# Altium footprint library EFR32BG1B232F256GM48-C0-QFN48.PcbLib: 2 footprints
Each footprint in its own frame and in the unit in brackets; x right, y up, seen from the top. Pads: shape width x height; smd on the part's side, far side on the other; paste and mask are expansions set on the pad; w line width, h text height; cw(c..) or ccw(c..) is an arc to the next point about the centre after c.
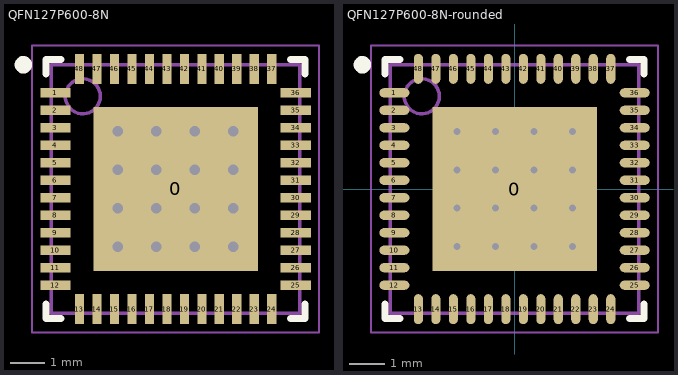
[diagram p0: the footprints below, top view; thin cyan lines are the x and y axes]

## QFN127P600-8N [mm] "EFR32BG1B232F256GM48-C0-QFN48"
height 0.9
pads (49):
  rect 4.7x4.7 smd: 0(-13.74,13.74)
  rect 0.86x0.26 smd: 1(-17.175,16.49) 2(-17.175,15.99) 3(-17.175,15.49) 4(-17.175,14.99) 5(-17.175,14.49) 6(-17.175,13.99) 7(-17.175,13.49) 8(-17.175,12.99) 9(-17.175,12.49) 10(-17.175,11.99) 11(-17.175,11.49) 12(-17.175,10.99) 25(-10.305,10.99) 26(-10.305,11.49) 27(-10.305,11.99) 28(-10.305,12.49) 29(-10.305,12.99) 30(-10.305,13.49) 31(-10.305,13.99) 32(-10.305,14.49) 33(-10.305,14.99) 34(-10.305,15.49) 35(-10.305,15.99) 36(-10.305,16.49)
  rect 0.26x0.86 smd: 13(-16.49,10.305) 14(-15.99,10.305) 15(-15.49,10.305) 16(-14.99,10.305) 17(-14.49,10.305) 18(-13.99,10.305) 19(-13.49,10.305) 20(-12.99,10.305) 21(-12.49,10.305) 22(-11.99,10.305) 23(-11.49,10.305) 24(-10.99,10.305) 37(-10.99,17.175) 38(-11.49,17.175) 39(-11.99,17.175) 40(-12.49,17.175) 41(-12.99,17.175) 42(-13.49,17.175) 43(-13.99,17.175) 44(-14.49,17.175) 45(-14.99,17.175) 46(-15.49,17.175) 47(-15.99,17.175) 48(-16.49,17.175)
via -15.39,15.39 diameter 0.61 hole 0.305
via -14.29,15.39 diameter 0.61 hole 0.305
via -13.19,15.39 diameter 0.61 hole 0.305
via -12.09,15.39 diameter 0.61 hole 0.305
via -15.39,14.29 diameter 0.61 hole 0.305
via -14.29,14.29 diameter 0.61 hole 0.305
via -13.19,14.29 diameter 0.61 hole 0.305
via -12.09,14.29 diameter 0.61 hole 0.305
via -15.39,13.19 diameter 0.61 hole 0.305
via -14.29,13.19 diameter 0.61 hole 0.305
via -13.19,13.19 diameter 0.61 hole 0.305
via -12.09,13.19 diameter 0.61 hole 0.305
via -15.39,12.09 diameter 0.61 hole 0.305
via -14.29,12.09 diameter 0.61 hole 0.305
via -13.19,12.09 diameter 0.61 hole 0.305
via -12.09,12.09 diameter 0.61 hole 0.305
Top Overlay:
  circle w0.25: c-18.09,17.29 r0.125
  lines w0.2: -17.44,10.46 -17.44,10.04 -17.02,10.04 ; -17.44,17.02 -17.44,17.44 -17.02,17.44 ; -10.46,10.04 -10.04,10.04 -10.04,10.46 ; -10.46,17.44 -10.04,17.44 -10.04,17.02
Mechanical 13:
  circle w0.1: c-16.39,16.39 r0.5
  lines w0.1: -17.29,10.19 -17.29,17.29 -10.19,17.29 -10.19,10.19 -17.29,10.19
Mechanical 15:
  lines w0.05: -17.84,9.64 -17.84,17.84 -9.64,17.84 -9.64,9.64 -17.84,9.64
  lines w0.1: -14.24,13.74 -13.24,13.74 ; -13.74,13.24 -13.74,14.24
3D body: height 0.9, standoff 0, extent -17.29,10.19 -10.19,17.29

## QFN127P600-8N-rounded [mm] "EFR32BG1B232F256GM48-C0-QFN48-Rounded"
height 0.9
pads (49):
  rect 4.7x4.7 smd: 0(0,0)
  oval 0.86x0.26 smd: 1(-3.435,2.75) 2(-3.435,2.25) 3(-3.435,1.75) 4(-3.435,1.25) 5(-3.435,0.75) 6(-3.435,0.25) 7(-3.435,-0.25) 8(-3.435,-0.75) 9(-3.435,-1.25) 10(-3.435,-1.75) 11(-3.435,-2.25) 12(-3.435,-2.75) 25(3.435,-2.75) 26(3.435,-2.25) 27(3.435,-1.75) 28(3.435,-1.25) 29(3.435,-0.75) 30(3.435,-0.25) 31(3.435,0.25) 32(3.435,0.75) 33(3.435,1.25) 34(3.435,1.75) 35(3.435,2.25) 36(3.435,2.75)
  oval 0.26x0.86 smd: 13(-2.75,-3.435) 14(-2.25,-3.435) 15(-1.75,-3.435) 16(-1.25,-3.435) 17(-0.75,-3.435) 18(-0.25,-3.435) 19(0.25,-3.435) 20(0.75,-3.435) 21(1.25,-3.435) 22(1.75,-3.435) 23(2.25,-3.435) 24(2.75,-3.435) 37(2.75,3.435) 38(2.25,3.435) 39(1.75,3.435) 40(1.25,3.435) 41(0.75,3.435) 42(0.25,3.435) 43(-0.25,3.435) 44(-0.75,3.435) 45(-1.25,3.435) 46(-1.75,3.435) 47(-2.25,3.435) 48(-2.75,3.435)
via 1.65,-1.65 diameter 0.5 hole 0.2
via 0.55,-1.65 diameter 0.5 hole 0.2
via -0.55,-1.65 diameter 0.5 hole 0.2
via -1.65,-1.65 diameter 0.5 hole 0.2
via 1.65,-0.55 diameter 0.5 hole 0.2
via 0.55,-0.55 diameter 0.5 hole 0.2
via -0.55,-0.55 diameter 0.5 hole 0.2
via -1.65,-0.55 diameter 0.5 hole 0.2
via 1.65,0.55 diameter 0.5 hole 0.2
via 0.55,0.55 diameter 0.5 hole 0.2
via -0.55,0.55 diameter 0.5 hole 0.2
via -1.65,0.55 diameter 0.5 hole 0.2
via 1.65,1.65 diameter 0.5 hole 0.2
via 0.55,1.65 diameter 0.5 hole 0.2
via -0.55,1.65 diameter 0.5 hole 0.2
via -1.65,1.65 diameter 0.5 hole 0.2
Top Overlay:
  circle w0.25: c-4.35,3.55 r0.125
  lines w0.2: -3.7,-3.28 -3.7,-3.7 -3.28,-3.7 ; -3.7,3.28 -3.7,3.7 -3.28,3.7 ; 3.28,-3.7 3.7,-3.7 3.7,-3.28 ; 3.28,3.7 3.7,3.7 3.7,3.28
Mechanical 13:
  circle w0.1: c-2.65,2.65 r0.5
  lines w0.1: -3.55,-3.55 3.55,-3.55 3.55,3.55 -3.55,3.55 -3.55,-3.55
Mechanical 15:
  lines w0.05: -4.1,-4.1 4.1,-4.1 4.1,4.1 -4.1,4.1 -4.1,-4.1
  lines w0.1: -0.5,0 0.5,0 ; 0,-0.5 0,0.5
3D body: height 0.9, standoff 0, extent -3.55,-3.55 3.55,3.55